# Altium footprint library Embedded - Microcontrollers.PcbLib: 6 footprints
Each footprint in its own frame and in the unit in brackets; x right, y up, seen from the top. Pads: shape width x height; smd on the part's side, far side on the other; paste and mask are expansions set on the pad; w line width, h text height; cw(c..) or ccw(c..) is an arc to the next point about the centre after c.
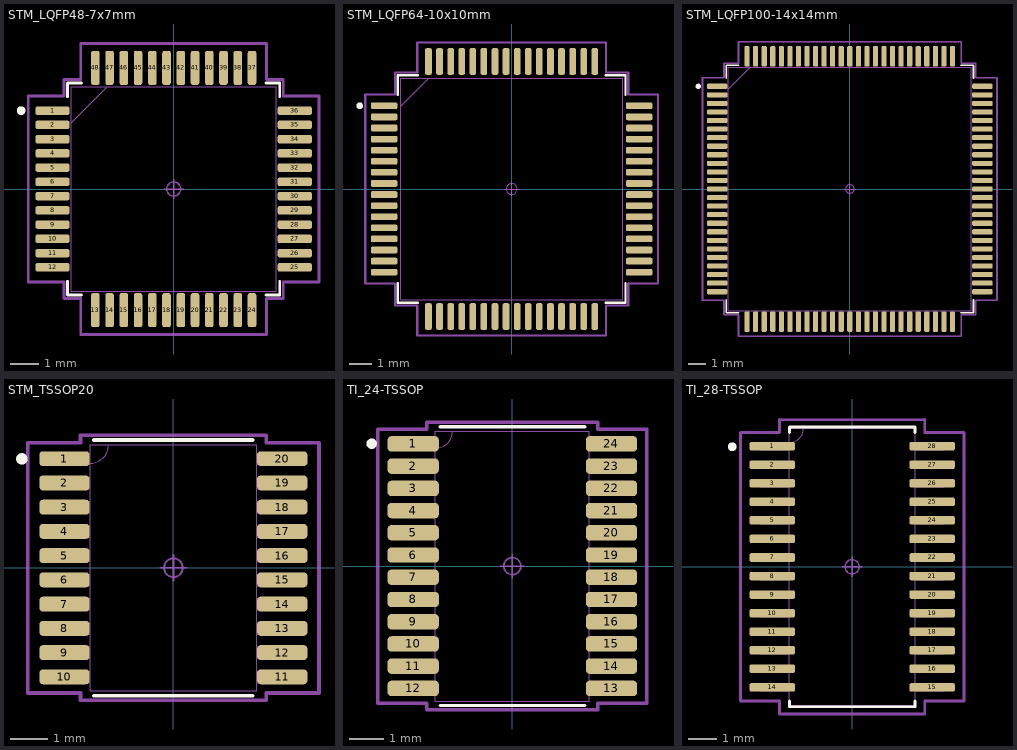
[diagram p0: the footprints below, top view; thin cyan lines are the x and y axes]

## STM_LQFP48-7x7mm [mm]
pads (48):
  rrect50% 1.2x0.3 smd mask+0.04: 1(-4.25,2.75) 2(-4.25,2.25) 3(-4.25,1.75) 4(-4.25,1.25) 5(-4.25,0.75) 6(-4.25,0.25) 7(-4.25,-0.25) 8(-4.25,-0.75) 9(-4.25,-1.25) 10(-4.25,-1.75) 11(-4.25,-2.25) 12(-4.25,-2.75) 25(4.25,-2.75) 26(4.25,-2.25) 27(4.25,-1.75) 28(4.25,-1.25) 29(4.25,-0.75) 30(4.25,-0.25) 31(4.25,0.25) 32(4.25,0.75) 33(4.25,1.25) 34(4.25,1.75) 35(4.25,2.25) 36(4.25,2.75)
  rrect50% 0.3x1.2 smd mask+0.04: 13(-2.75,-4.25) 14(-2.25,-4.25) 15(-1.75,-4.25) 16(-1.25,-4.25) 17(-0.75,-4.25) 18(-0.25,-4.25) 19(0.25,-4.25) 20(0.75,-4.25) 21(1.25,-4.25) 22(1.75,-4.25) 23(2.25,-4.25) 24(2.75,-4.25) 37(2.75,4.25) 38(2.25,4.25) 39(1.75,4.25) 40(1.25,4.25) 41(0.75,4.25) 42(0.25,4.25) 43(-0.25,4.25) 44(-0.75,4.25) 45(-1.25,4.25) 46(-1.75,4.25) 47(-2.25,4.25) 48(-2.75,4.25)
Top Overlay:
  circle w0.152: c-5.351,2.75 r0.076
  lines w0.1: -3.721,-3.235 -3.721,-3.721 -3.235,-3.721 ; -3.721,3.235 -3.721,3.721 -3.235,3.721 ; 3.235,-3.721 3.721,-3.721 3.721,-3.235 ; 3.235,3.721 3.721,3.721 3.721,3.235
Mechanical 13:
  lines w0.025: -3.594,2.324 -2.324,3.594 ; -3.594,-3.594 -3.594,3.594 3.594,3.594 3.594,-3.594 -3.594,-3.594
Mechanical 15:
  circle w0.05: c0,0 r0.25
  lines w0.05: -0.35,0 0.35,0 ; 0,-0.35 0,0.35
  lines w0.1: -5.101,-3.258 -5.101,3.258 -3.848,3.258 -3.848,3.848 -3.258,3.848 -3.258,5.101 3.258,5.101 3.258,3.848 3.848,3.848 3.848,3.258 5.101,3.258 5.101,-3.258 3.848,-3.258 3.848,-3.848 3.258,-3.848 3.258,-5.101 -3.258,-5.101 -3.258,-3.848 -3.848,-3.848 -3.848,-3.258 -5.101,-3.258
3D body "LQFP48-7x7mm.step": height 1.6, standoff 0, extent -4.497,-4.497 4.497,4.497

## STM_LQFP64-10x10mm [mm]
pads (64):
  rrect50% 1.2x0.3 smd mask+0.04: 1(-5.75,3.75) 2(-5.75,3.25) 3(-5.75,2.75) 4(-5.75,2.25) 5(-5.75,1.75) 6(-5.75,1.25) 7(-5.75,0.75) 8(-5.75,0.25) 9(-5.75,-0.25) 10(-5.75,-0.75) 11(-5.75,-1.25) 12(-5.75,-1.75) 13(-5.75,-2.25) 14(-5.75,-2.75) 15(-5.75,-3.25) 16(-5.75,-3.75) 33(5.75,-3.75) 34(5.75,-3.25) 35(5.75,-2.75) 36(5.75,-2.25) 37(5.75,-1.75) 38(5.75,-1.25) 39(5.75,-0.75) 40(5.75,-0.25) 41(5.75,0.25) 42(5.75,0.75) 43(5.75,1.25) 44(5.75,1.75) 45(5.75,2.25) 46(5.75,2.75) 47(5.75,3.25) 48(5.75,3.75)
  rrect50% 0.3x1.2 smd mask+0.04: 17(-3.75,-5.75) 18(-3.25,-5.75) 19(-2.75,-5.75) 20(-2.25,-5.75) 21(-1.75,-5.75) 22(-1.25,-5.75) 23(-0.75,-5.75) 24(-0.25,-5.75) 25(0.25,-5.75) 26(0.75,-5.75) 27(1.25,-5.75) 28(1.75,-5.75) 29(2.25,-5.75) 30(2.75,-5.75) 31(3.25,-5.75) 32(3.75,-5.75) 49(3.75,5.75) 50(3.25,5.75) 51(2.75,5.75) 52(2.25,5.75) 53(1.75,5.75) 54(1.25,5.75) 55(0.75,5.75) 56(0.25,5.75) 57(-0.25,5.75) 58(-0.75,5.75) 59(-1.25,5.75) 60(-1.75,5.75) 61(-2.25,5.75) 62(-2.75,5.75) 63(-3.25,5.75) 64(-3.75,5.75)
Top Overlay:
  circle w0.152: c-6.851,3.75 r0.076
  lines w0.1: -5.131,-4.234 -5.131,-5.131 -4.234,-5.131 ; -5.131,4.234 -5.131,5.131 -4.234,5.131 ; 4.234,-5.131 5.131,-5.131 5.131,-4.234 ; 4.234,5.131 5.131,5.131 5.131,4.234
Mechanical 13:
  lines w0.025: -5.004,3.734 -3.734,5.004 ; -5.004,-5.004 -5.004,5.004 5.004,5.004 5.004,-5.004 -5.004,-5.004
Mechanical 15:
  circle w0.05: c0,0 r0.25
  lines w0.05: -0.35,0 0.35,0 ; 0,-0.35 0,0.35
  lines w0.1: -6.601,-4.258 -6.601,4.258 -5.258,4.258 -5.258,5.258 -4.258,5.258 -4.258,6.601 4.258,6.601 4.258,5.258 5.258,5.258 5.258,4.258 6.601,4.258 6.601,-4.258 5.258,-4.258 5.258,-5.258 4.258,-5.258 4.258,-6.601 -4.258,-6.601 -4.258,-5.258 -5.258,-5.258 -5.258,-4.258 -6.601,-4.258
3D body "LQFP64-10x10mm.step": height 1.6, standoff 0, extent -5.997,-5.997 5.997,5.997

## STM_LQFP100-14x14mm [mm]
pads (100):
  rrect50% 1.2x0.3 smd paste+0 mask+0.04: 1(-7.75,6) 2(-7.75,5.5) 3(-7.75,5) 4(-7.75,4.5) 5(-7.75,4) 6(-7.75,3.5) 7(-7.75,3) 8(-7.75,2.5) 9(-7.75,2) 10(-7.75,1.5) 11(-7.75,1) 12(-7.75,0.5) 13(-7.75,0) 14(-7.75,-0.5) 15(-7.75,-1) 16(-7.75,-1.5) 17(-7.75,-2) 18(-7.75,-2.5) 19(-7.75,-3) 20(-7.75,-3.5) 21(-7.75,-4) 22(-7.75,-4.5) 23(-7.75,-5) 24(-7.75,-5.5) 25(-7.75,-6) 51(7.75,-6) 52(7.75,-5.5) 53(7.75,-5) 54(7.75,-4.5) 55(7.75,-4) 56(7.75,-3.5) 57(7.75,-3) 58(7.75,-2.5) 59(7.75,-2) 60(7.75,-1.5) 61(7.75,-1) 62(7.75,-0.5) 63(7.75,0) 64(7.75,0.5) 65(7.75,1) 66(7.75,1.5) 67(7.75,2) 68(7.75,2.5) 69(7.75,3) 70(7.75,3.5) 71(7.75,4) 72(7.75,4.5) 73(7.75,5) 74(7.75,5.5) 75(7.75,6)
  rrect50% 0.3x1.2 smd paste+0 mask+0.04: 26(-6,-7.75) 27(-5.5,-7.75) 28(-5,-7.75) 29(-4.5,-7.75) 30(-4,-7.75) 31(-3.5,-7.75) 32(-3,-7.75) 33(-2.5,-7.75) 34(-2,-7.75) 35(-1.5,-7.75) 36(-1,-7.75) 37(-0.5,-7.75) 38(0,-7.75) 39(0.5,-7.75) 40(1,-7.75) 41(1.5,-7.75) 42(2,-7.75) 43(2.5,-7.75) 44(3,-7.75) 45(3.5,-7.75) 46(4,-7.75) 47(4.5,-7.75) 48(5,-7.75) 49(5.5,-7.75) 50(6,-7.75) 76(6,7.75) 77(5.5,7.75) 78(5,7.75) 79(4.5,7.75) 80(4,7.75) 81(3.5,7.75) 82(3,7.75) 83(2.5,7.75) 84(2,7.75) 85(1.5,7.75) 86(1,7.75) 87(0.5,7.75) 88(0,7.75) 89(-0.5,7.75) 90(-1,7.75) 91(-1.5,7.75) 92(-2,7.75) 93(-2.5,7.75) 94(-3,7.75) 95(-3.5,7.75) 96(-4,7.75) 97(-4.5,7.75) 98(-5,7.75) 99(-5.5,7.75) 100(-6,7.75)
Top Overlay:
  circle w0.152: c-8.851,6 r0.076
  lines w0.1: -7.226,-6.485 -7.226,-7.226 -6.485,-7.226 ; -7.226,6.485 -7.226,7.226 -6.485,7.226 ; 6.485,-7.226 7.226,-7.226 7.226,-6.485 ; 6.485,7.226 7.226,7.226 7.226,6.485
Mechanical 13:
  lines w0.025: -7.099,5.829 -5.829,7.099 ; -7.099,-7.099 7.099,-7.099 7.099,7.099 -7.099,7.099 -7.099,-7.099
Mechanical 15:
  circle w0.05: c0,0 r0.25
  lines w0.05: -0.35,0 0.35,0 ; 0,-0.35 0,0.35
  lines w0.1: -8.601,-6.508 -7.353,-6.508 -7.353,-7.353 -6.508,-7.353 -6.508,-8.601 6.508,-8.601 6.508,-7.353 7.353,-7.353 7.353,-6.508 8.601,-6.508 8.601,6.508 7.353,6.508 7.353,7.353 6.508,7.353 6.508,8.601 -6.508,8.601 -6.508,7.353 -7.353,7.353 -7.353,6.508 -8.601,6.508 -8.601,-6.508
3D body "LQFP100-14x14mm.step": height 1.6, standoff 0, extent -7.997,-7.997 7.997,7.997

## STM_TSSOP20 [mm]
pads (20):
  rrect50% 1.35x0.4 smd mask+0.04: 1(-2.921,2.925) 2(-2.921,2.275) 3(-2.921,1.625) 4(-2.921,0.975) 5(-2.921,0.325) 6(-2.921,-0.325) 7(-2.921,-0.975) 8(-2.921,-1.625) 9(-2.921,-2.275) 10(-2.921,-2.925) 11(2.921,-2.925) 12(2.921,-2.275) 13(2.921,-1.625) 14(2.921,-0.975) 15(2.921,-0.325) 16(2.921,0.325) 17(2.921,0.975) 18(2.921,1.625) 19(2.921,2.275) 20(2.921,2.925)
Top Overlay:
  circle w0.152: c-4.064,2.921 r0.076
  lines w0.1: -2.126,-3.429 2.126,-3.429 ; -2.126,3.429 2.126,3.429
Mechanical 13:
  lines w0.025: -2.235,2.802 ccw(c-2.235,3.302) -1.735,3.302 ; -3.302,-3.077 -2.235,-3.077 -2.235,-2.773 -3.302,-2.773 -3.302,-3.077 ; -3.302,-2.427 -2.235,-2.427 -2.235,-2.123 -3.302,-2.123 -3.302,-2.427 ; -3.302,-1.777 -2.235,-1.777 -2.235,-1.473 -3.302,-1.473 -3.302,-1.777 ; -3.302,-1.127 -2.235,-1.127 -2.235,-0.823 -3.302,-0.823 -3.302,-1.127 ; -3.302,-0.477 -2.235,-0.477 -2.235,-0.173 -3.302,-0.173 -3.302,-0.477 ; -3.302,0.173 -2.235,0.173 -2.235,0.477 -3.302,0.477 -3.302,0.173 ; -3.302,0.823 -2.235,0.823 -2.235,1.127 -3.302,1.127 -3.302,0.823 ; -3.302,1.473 -2.235,1.473 -2.235,1.777 -3.302,1.777 -3.302,1.473 ; -3.302,2.123 -2.235,2.123 -2.235,2.427 -3.302,2.427 -3.302,2.123 ; -3.302,2.773 -2.235,2.773 -2.235,3.077 -3.302,3.077 -3.302,2.773 ; -2.235,-3.302 -2.235,3.302 2.235,3.302 2.235,-3.302 -2.235,-3.302 ; 2.235,-3.077 3.302,-3.077 3.302,-2.773 2.235,-2.773 2.235,-3.077 ; 2.235,-2.427 3.302,-2.427 3.302,-2.123 2.235,-2.123 2.235,-2.427 ; 2.235,-1.777 3.302,-1.777 3.302,-1.473 2.235,-1.473 2.235,-1.777 ; 2.235,-1.127 3.302,-1.127 3.302,-0.823 2.235,-0.823 2.235,-1.127 ; 2.235,-0.477 3.302,-0.477 3.302,-0.173 2.235,-0.173 2.235,-0.477 ; 2.235,0.173 3.302,0.173 3.302,0.477 2.235,0.477 2.235,0.173 ; 2.235,0.823 3.302,0.823 3.302,1.127 2.235,1.127 2.235,0.823 ; 2.235,1.473 3.302,1.473 3.302,1.777 2.235,1.777 2.235,1.473 ; 2.235,2.123 3.302,2.123 3.302,2.427 2.235,2.427 2.235,2.123 ; 2.235,2.773 3.302,2.773 3.302,3.077 2.235,3.077 2.235,2.773
Mechanical 15:
  circle w0.05: c0,0 r0.25
  lines w0.05: -0.35,0 0.35,0 ; 0,-0.35 0,0.35
  lines w0.1: -3.906,-3.356 -2.489,-3.356 -2.489,-3.556 2.489,-3.556 2.489,-3.356 3.906,-3.356 3.906,3.356 2.489,3.356 2.489,3.556 -2.489,3.556 -2.489,3.356 -3.906,3.356 -3.906,-3.356
3D body "TSSOP20.step": height 1.2, standoff 0, extent -3.302,-3.302 3.302,3.302

## TI_24-TSSOP [mm]
pads (24):
  rrect50% 1.5x0.45 smd mask+0.04: 1(-2.9,3.575) 2(-2.9,2.925) 3(-2.9,2.275) 4(-2.9,1.625) 5(-2.9,0.975) 6(-2.9,0.325) 7(-2.9,-0.325) 8(-2.9,-0.975) 9(-2.9,-1.625) 10(-2.9,-2.275) 11(-2.9,-2.925) 12(-2.9,-3.575) 13(2.9,-3.575) 14(2.9,-2.925) 15(2.9,-2.275) 16(2.9,-1.625) 17(2.9,-0.975) 18(2.9,-0.325) 19(2.9,0.325) 20(2.9,0.975) 21(2.9,1.625) 22(2.9,2.275) 23(2.9,2.925) 24(2.9,3.575)
Top Overlay:
  circle w0.152: c-4.115,3.581 r0.076
  lines w0.1: -2.116,-4.077 2.116,-4.077 ; -2.116,4.077 2.116,4.077
Mechanical 13:
  lines w0.025: -2.248,3.45 ccw(c-2.248,3.95) -1.748,3.95 ; -3.302,-3.727 -3.302,-3.423 -2.248,-3.423 -2.248,-3.727 -3.302,-3.727 ; -3.302,-3.077 -3.302,-2.773 -2.248,-2.773 -2.248,-3.077 -3.302,-3.077 ; -3.302,-2.427 -3.302,-2.123 -2.248,-2.123 -2.248,-2.427 -3.302,-2.427 ; -3.302,-1.777 -3.302,-1.473 -2.248,-1.473 -2.248,-1.777 -3.302,-1.777 ; -3.302,-1.127 -3.302,-0.823 -2.248,-0.823 -2.248,-1.127 -3.302,-1.127 ; -3.302,-0.477 -3.302,-0.173 -2.248,-0.173 -2.248,-0.477 -3.302,-0.477 ; -3.302,0.173 -3.302,0.477 -2.248,0.477 -2.248,0.173 -3.302,0.173 ; -3.302,0.823 -3.302,1.127 -2.248,1.127 -2.248,0.823 -3.302,0.823 ; -3.302,1.473 -3.302,1.777 -2.248,1.777 -2.248,1.473 -3.302,1.473 ; -3.302,2.123 -3.302,2.427 -2.248,2.427 -2.248,2.123 -3.302,2.123 ; -3.302,2.773 -3.302,3.077 -2.248,3.077 -2.248,2.773 -3.302,2.773 ; -3.302,3.423 -3.302,3.727 -2.248,3.727 -2.248,3.423 -3.302,3.423 ; -2.248,-3.95 2.248,-3.95 2.248,3.95 -2.248,3.95 -2.248,-3.95 ; 2.248,-3.727 2.248,-3.423 3.302,-3.423 3.302,-3.727 2.248,-3.727 ; 2.248,-3.077 2.248,-2.773 3.302,-2.773 3.302,-3.077 2.248,-3.077 ; 2.248,-2.427 2.248,-2.123 3.302,-2.123 3.302,-2.427 2.248,-2.427 ; 2.248,-1.777 2.248,-1.473 3.302,-1.473 3.302,-1.777 2.248,-1.777 ; 2.248,-1.127 2.248,-0.823 3.302,-0.823 3.302,-1.127 2.248,-1.127 ; 2.248,-0.477 2.248,-0.173 3.302,-0.173 3.302,-0.477 2.248,-0.477 ; 2.248,0.173 2.248,0.477 3.302,0.477 3.302,0.173 2.248,0.173 ; 2.248,0.823 2.248,1.127 3.302,1.127 3.302,0.823 2.248,0.823 ; 2.248,1.473 2.248,1.777 3.302,1.777 3.302,1.473 2.248,1.473 ; 2.248,2.123 2.248,2.427 3.302,2.427 3.302,2.123 2.248,2.123 ; 2.248,2.773 2.248,3.077 3.302,3.077 3.302,2.773 2.248,2.773 ; 2.248,3.423 2.248,3.727 3.302,3.727 3.302,3.423 2.248,3.423
Mechanical 15:
  circle w0.05: c0,0 r0.25
  lines w0.05: -0.35,0 0.35,0 ; 0,-0.35 0,0.35
  lines w0.1: -3.937,-4.006 -3.937,4.006 -2.502,4.006 -2.502,4.204 2.502,4.204 2.502,4.006 3.937,4.006 3.937,-4.006 2.502,-4.006 2.502,-4.204 -2.502,-4.204 -2.502,-4.006 -3.937,-4.006
3D body "PW0024A.stp": height 1.13, standoff 0, extent -3.2,-3.9 3.2,3.9

## TI_28-TSSOP [mm]
pads (28):
  rrect50% 1.6x0.3 smd mask+0.04: 1(-2.8,4.225) 2(-2.8,3.575) 3(-2.8,2.925) 4(-2.8,2.275) 5(-2.8,1.625) 6(-2.8,0.975) 7(-2.8,0.325) 8(-2.8,-0.325) 9(-2.8,-0.975) 10(-2.8,-1.625) 11(-2.8,-2.275) 12(-2.8,-2.925) 13(-2.8,-3.575) 14(-2.8,-4.225) 15(2.8,-4.225) 16(2.8,-3.575) 17(2.8,-2.925) 18(2.8,-2.275) 19(2.8,-1.625) 20(2.8,-0.975) 21(2.8,-0.325) 22(2.8,0.325) 23(2.8,0.975) 24(2.8,1.625) 25(2.8,2.275) 26(2.8,2.925) 27(2.8,3.575) 28(2.8,4.225)
Top Overlay:
  circle w0.152: c-4.2,4.2 r0.076
  lines w0.1: -2.2,-4.699 -2.2,-4.9 2.2,-4.9 2.2,-4.699 ; -2.2,4.699 -2.2,4.9 2.2,4.9 2.2,4.699
Mechanical 13:
  drawing of 341 lines, arcs and shapes, not listed
Mechanical 15:
  circle w0.05: c0,0 r0.25
  lines w0.05: -0.35,0 0.35,0 ; 0,-0.35 0,0.35
  lines w0.1: -2.54,-5.156 -2.54,-4.699 -3.912,-4.699 -3.912,4.699 -2.54,4.699 -2.54,5.156 ; -2.54,-5.15 2.54,-5.15 ; -2.54,5.15 2.54,5.15 ; 2.54,-5.156 2.54,-4.699 3.912,-4.699 3.912,4.699 2.54,4.699 2.54,5.156
3D body "PW0028A.stp": height 1.13, standoff 0, extent -3.2,-4.85 3.2,4.85